# Altium footprint library RPSLib_Inductors.PcbLib: 19 footprints (part 1 of 2)
Each footprint in its own frame and in the unit in brackets; x right, y up, seen from the top. Pads: shape width x height; smd on the part's side, far side on the other; paste and mask are expansions set on the pad; w line width, h text height; cw(c..) or ccw(c..) is an arc to the next point about the centre after c.
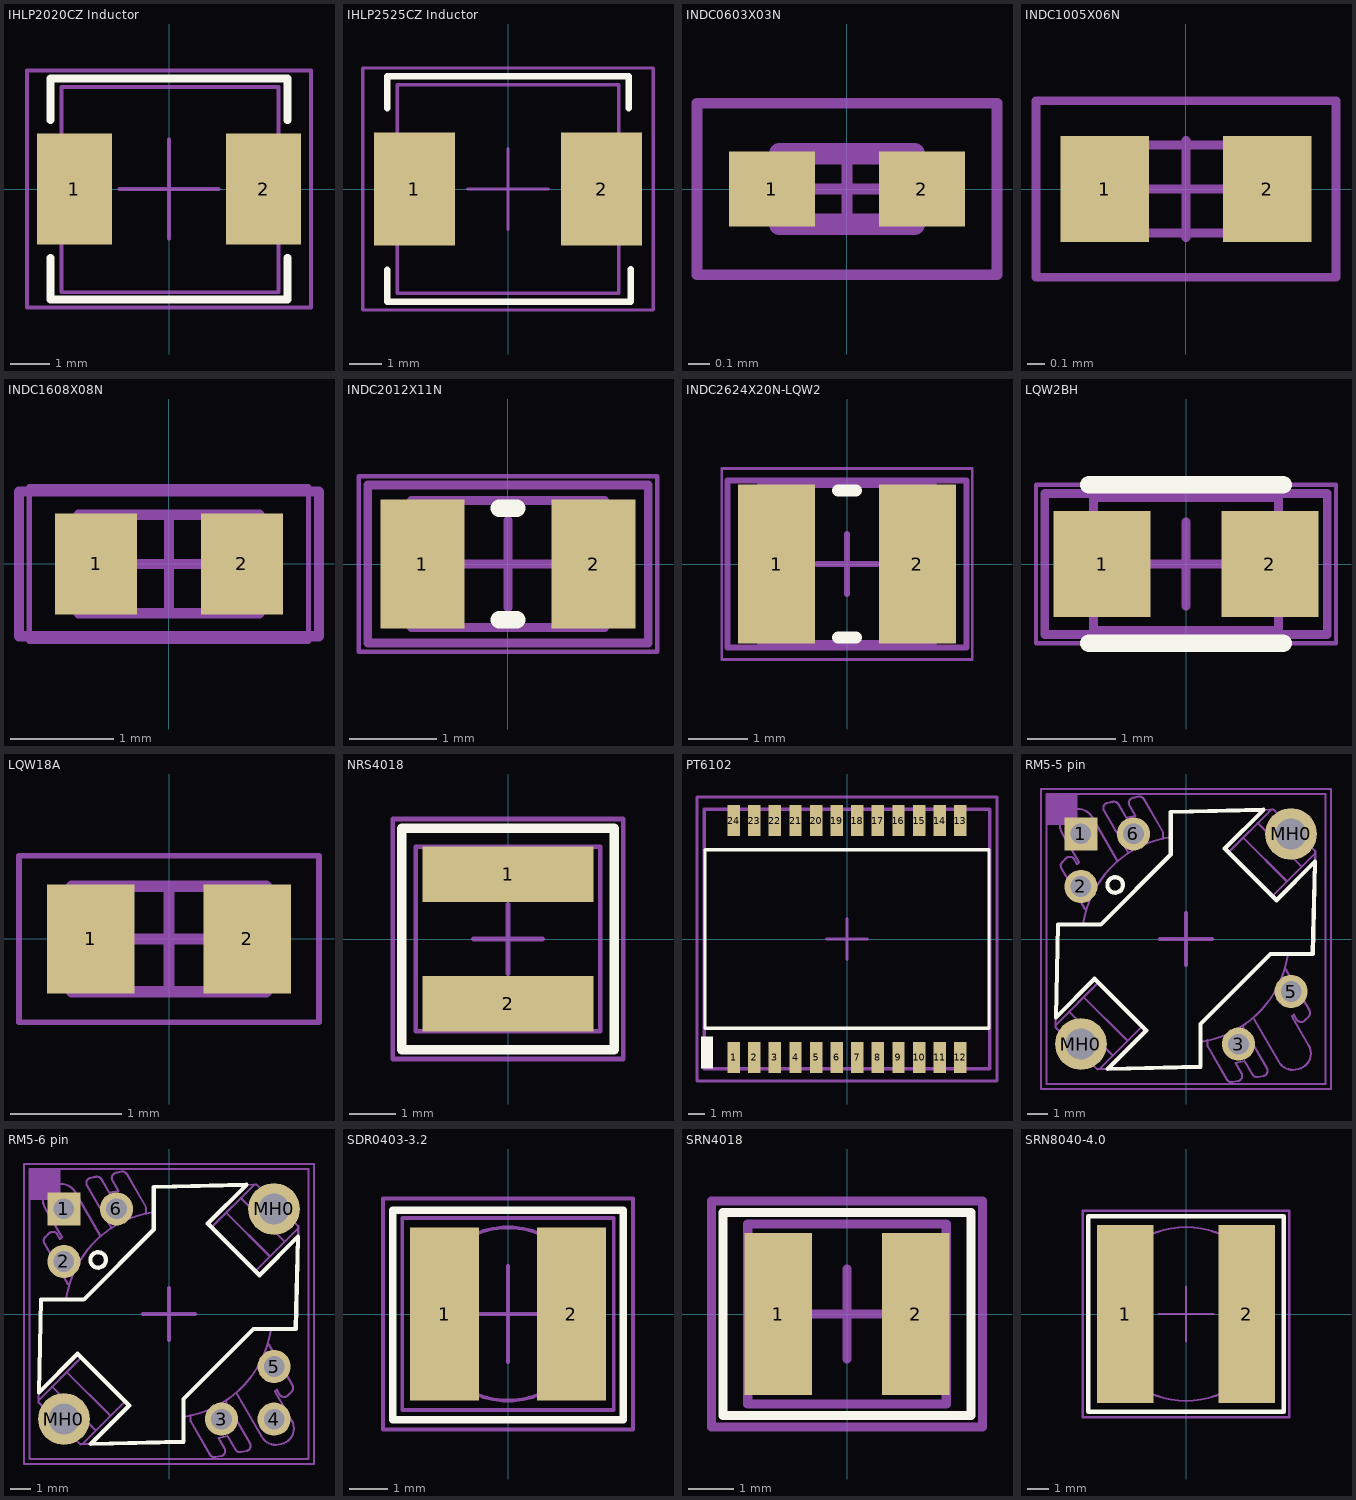
[diagram p0: the footprints below, top view; thin cyan lines are the x and y axes]

## IHLP2020CZ Inductor [mm]
height 3
pads (2):
  rect 1.9x2.8 smd mask+0.07: 1(-2.4,0) 2(2.4,0)
Top Overlay:
  lines w0.2: -3,-1.75 -3,-2.8 3,-2.8 3,-1.743 ; -3,1.75 -3,2.8 3,2.8 3,1.743
Mechanical 13:
  lines w0.1: -2.724,-2.615 -2.724,2.585 2.776,2.585 2.776,-2.615 -2.724,-2.615
Mechanical 15:
  lines w0.1: -1.25,0 1.25,0 ; 0,-1.25 0,1.25 ; -3.6,-3 3.6,-3 3.6,3 -3.6,3 -3.6,-3
3D body "User Library-IHLP2020CZ.step": height 3, standoff 0, extent -2.724,-2.615 2.776,2.585

## IHLP2525CZ Inductor [mm]
height 3
pads (2):
  rect 2.5x3.5 smd mask+0.07: 1(-2.9,0) 2(2.9,0)
Top Overlay:
  lines w0.2: -3.75,-2.5 -3.75,-3.5 3.801,-3.5 ; -3.75,2.5 -3.75,3.5 3.75,3.5 3.75,2.5 ; 3.801,-3.493 3.801,-2.493
Mechanical 13:
  lines w0.1: -3.43,-3.235 3.43,-3.235 3.43,3.235 -3.43,3.235 -3.43,-3.235
Mechanical 15:
  lines w0.1: -1.25,0 1.25,0 ; 0,-1.25 0,1.25 ; -4.5,-3.75 -4.5,3.75 4.5,3.75 4.5,-3.75 -4.5,-3.75
3D body "User Library-IHLP-2525CZ.step": height 3, standoff 0, extent -3.43,-3.235 3.43,3.235

## INDC0603X03N [mm] "Chip Inductor, 2-Leads, Body 0.60x0.30mm, IPC Medium Density"
height 0.3
pads (2):
  rect 0.4x0.35 smd paste-1: 1(-0.35,0) 2(0.35,0)
Top Paste:
  region: 0.45,0.15 0.46,0.15 0.478,0.142 0.492,0.128 0.5,0.11 0.5,0.1 0.5,-0.1 0.5,-0.11 0.492,-0.128 0.478,-0.142 0.46,-0.15 0.45,-0.15 0.225,-0.15 0.215,-0.15 0.197,-0.142 0.183,-0.128 0.175,-0.11 0.175,-0.1 0.175,0.1 0.175,0.11 0.183,0.128 0.197,0.142 0.215,0.15 0.225,0.15
  region: -0.45,-0.15 -0.46,-0.15 -0.478,-0.142 -0.492,-0.128 -0.5,-0.11 -0.5,-0.1 -0.5,0.1 -0.5,0.11 -0.492,0.128 -0.478,0.142 -0.46,0.15 -0.45,0.15 -0.225,0.15 -0.215,0.15 -0.197,0.142 -0.183,0.128 -0.175,0.11 -0.175,0.1 -0.175,-0.1 -0.175,-0.11 -0.183,-0.128 -0.197,-0.142 -0.215,-0.15 -0.225,-0.15
Mechanical 13:
  lines w0.1: -0.315,-0.165 -0.315,0.165 0.315,0.165 0.315,-0.165 -0.315,-0.165
Mechanical 15:
  lines w0.05: -0.165,0 0.165,0 ; 0,-0.165 0,0.165 ; -0.7,-0.4 -0.7,0.4 0.7,0.4 0.7,-0.4 -0.7,-0.4
3D body "INDC0603X03N.step": height 0.3, standoff 0, extent -0.315,-0.165 0.315,0.165

## INDC1005X06N [mm] "Chip Inductor, 2-Leads, Body 1.00x0.50mm, IPC Medium Density"
height 0.55
pads (2):
  rect 0.5x0.6 smd paste-0.05 mask+0.07: 1(-0.46,0) 2(0.46,0)
Mechanical 1:
  lines w0.05: -0.85,-0.5 0.85,-0.5 0.85,0.5 -0.85,0.5 -0.85,-0.5
  text ".Designator" at -1.126,-0.113 h0.5
Mechanical 13:
  lines w0.05: -0.5,-0.25 -0.5,0.25 0.5,0.25 0.5,-0.25 -0.5,-0.25
Mechanical 15:
  lines w0.05: -0.275,0 0.275,0 ; 0,-0.275 0,0.275 ; -0.85,-0.5 -0.85,0.5 0.85,0.5 0.85,-0.5 -0.85,-0.5
3D body "INDC1005X05L.step": height 0.5, standoff 0, extent -0.5,-0.25 0.5,0.25

## INDC1608X08N [mm] "Chip Inductor, 2-Leads, Body 1.60x0.80mm, IPC Medium Density"
height 0.8
pads (2):
  rect 0.79x0.98 smd paste-0.04 mask+0.07: 1(-0.705,0) 2(0.705,0)
Mechanical 1:
  lines w0.1: -1.45,-0.7 1.45,-0.7 1.45,0.7 -1.45,0.7 -1.45,-0.7
  text ".Designator" at -2.253,-0.226 h1
Mechanical 13:
  lines w0.1: -0.875,-0.475 -0.875,0.475 0.875,0.475 0.875,-0.475 -0.875,-0.475
Mechanical 15:
  lines w0.05: -1.35,-0.75 -1.35,0.75 1.35,0.75 1.35,-0.75 -1.35,-0.75
  lines w0.1: -0.475,0 0.475,0 ; 0,-0.475 0,0.475
3D body "INDC1608X08N.step": height 0.8, standoff 0, extent -0.875,-0.475 0.875,0.475

## INDC2012X11N [mm] "Chip Inductor, 2-Leads, Body 2,00x1,25mm, IPC Medium Density"
height 1.1
pads (2):
  rect 0.96x1.47 smd: 1(-0.975,0) 2(0.975,0)
Top Overlay:
  lines w0.2: -0.1,-0.635 0.1,-0.635 ; -0.1,0.635 0.1,0.635
Mechanical 1:
  lines w0.1: -1.6,-0.9 1.6,-0.9 1.6,0.9 -1.6,0.9 -1.6,-0.9
  text ".Designator" at -2.253,-0.226 h1
Mechanical 13:
  lines w0.1: -1.1,-0.725 -1.1,0.725 1.1,0.725 1.1,-0.725 -1.1,-0.725
Mechanical 15:
  lines w0.05: -1.7,-1 -1.7,1 1.7,1 1.7,-1 -1.7,-1
  lines w0.1: -0.5,0 0.5,0 ; 0,-0.5 0,0.5
3D body "INDC2012X11N.step": height 1.1, standoff 0, extent -1.1,-0.725 1.1,0.725

## INDC2624X20N-LQW2 [mm] "Chip Inductor, 2-Leads, Body 2,62x2,45mm, IPC Medium Density"
height 2.03
pads (2):
  rect 1.29x2.67 smd: 1(-1.18,0) 2(1.18,0)
Top Overlay:
  lines w0.2: -0.15,-1.235 0.15,-1.235 ; -0.15,1.235 0.15,1.235
Mechanical 1:
  lines w0.1: -2,-1.4 2,-1.4 2,1.4 -2,1.4 -2,-1.4
  text ".Designator" at -2.253,-0.226 h1
Mechanical 13:
  lines w0.1: -1.46,-1.325 1.46,-1.325 1.46,1.325 -1.46,1.325 -1.46,-1.325
Mechanical 15:
  lines w0.05: -2.1,-1.6 2.1,-1.6 2.1,1.6 -2.1,1.6 -2.1,-1.6
  lines w0.1: -0.5,0 0.5,0 ; 0,-0.5 0,0.5
3D body "INDC2624X20N-KLQW2.step": height 2.03, standoff 0, extent -1.46,-1.325 1.46,1.325

## LQW2BH [mm] "Chip Inductor, 2-Leads, Body 2.0x1.50mm, IPC Medium Density"
height 1.7
pads (2):
  rect 1.1x1.2 smd paste-0.04 mask+0.07: 1(-0.95,0) 2(0.95,0)
Top Overlay:
  lines w0.2: -1.1,-0.9 1.1,-0.9 ; -1.1,0.9 1.1,0.9
Mechanical 1:
  lines w0.1: -1.6,-0.8 1.6,-0.8 1.6,0.8 -1.6,0.8 -1.6,-0.8
  text ".Designator" at -2.253,-0.226 h1
Mechanical 13:
  lines w0.1: -1.05,-0.75 -1.05,0.75 1.05,0.75 1.05,-0.75 -1.05,-0.75
Mechanical 15:
  lines w0.05: -1.7,-0.9 -1.7,0.9 1.7,0.9 1.7,-0.9 -1.7,-0.9
  lines w0.1: -0.475,0 0.475,0 ; 0,-0.475 0,0.475
3D body "User Library-LQW2BHN.step": height 1.7, standoff 0, extent -1.05,-0.75 1.05,0.75

## LQW18A [mm] "Chip Inductor, 2-Leads, Body 1.60x0.80mm, IPC Medium Density"
height 0.8
pads (2):
  rect 0.79x0.98 smd paste-0.05 mask+0.07: 1(-0.705,0) 2(0.705,0)
Mechanical 13:
  lines w0.1: -0.875,-0.475 0.875,-0.475 0.875,0.475 -0.875,0.475 -0.875,-0.475
Mechanical 15:
  lines w0.05: -1.35,-0.75 1.35,-0.75 1.35,0.75 -1.35,0.75 -1.35,-0.75
  lines w0.1: -0.475,0 0.475,0 ; 0,-0.475 0,0.475
3D body "User Library-INDC1608X80-MURATA_LQW18A.step": height 0.81, standoff 0, extent -0.8,-0.45 0.8,0.45

## NRS4018 [mm] "Fixed inductor 4.0x4.0x1.8 mm"
height 1.8
pads (2):
  rect 3.7x1.2 smd mask+0.07: 1(0,1.4) 2(0,-1.4)
Top Overlay:
  lines w0.2: -2.3,-2.4 -2.3,2.4 2.3,2.4 2.3,-2.4 -2.3,-2.4
Mechanical 13:
  lines w0.1: -2,-2 2,-2 2,2 -2,2 -2,-2
Mechanical 15:
  lines w0.1: -0.75,0 0.75,0 ; 0,-0.75 0,0.75 ; -2.5,-2.6 2.5,-2.6 2.5,2.6 -2.5,2.6 -2.5,-2.6
3D body "NRS4018.stp": height 1.8, standoff 0, extent -2,-2 2,2

## PT6102 [mil] "LAN Transformer"
height 236.22
pads (24):
  rect 30x75 smd mask+2.76: 1(-275,-287.5) 2(-225,-287.5) 3(-175,-287.5) 4(-125,-287.5) 5(-75,-287.5) 6(-25,-287.5) 7(25,-287.5) 8(75,-287.5) 9(125,-287.5) 10(175,-287.5) 11(225,-287.5) 12(275,-287.5) 13(275,287.5) 14(225,287.5) 15(175,287.5) 16(125,287.5) 17(75,287.5) 18(25,287.5) 19(-25,287.5) 20(-75,287.5) 21(-125,287.5) 22(-175,287.5) 23(-225,287.5) 24(-275,287.5)
Top Overlay:
  rectangle: -354.33,-314.96 -324.8,-236.22
  lines w7.87: -344.49,-216.54 -344.49,216.54 344.49,216.54 344.49,-216.54 -344.49,-216.54
Mechanical 13:
  lines w7.87: -346.85,-314.95 -346.85,314.97 346.85,314.97 346.85,-314.95 -346.85,-314.95
Mechanical 15:
  lines w7.87: -49.21,0 49.21,0 ; 0,-49.21 0,49.21 ; -364.17,-344.49 -364.17,344.49 364.17,344.49 364.17,-344.49 -364.17,-344.49
3D body "pt61020l_dot.stp": height 236.22, standoff 0, extent -346.85,-314.95 346.85,314.97

## RM5-5 pin [mm]
pads (7):
  rect 1.6x1.6 hole 1 mask+0.07: 1(-5.08,5.08)
  round 1.6 hole 1 mask+0.07: 2(-5.08,2.54) 3(2.54,-5.08) 5(5.08,-2.54) 6(-2.54,5.08)
  round 2.5 hole 1.5 mask+0.07: MH0(-5.08,-5.08) MH0(5.08,5.08)
Top Overlay:
  circle w0.2: c-3.424,2.613 r0.375
  lines w0.2: 0.698,-4.972 0.698,-5.068 ; 4.927,-0.73 5.023,-0.73 ; 0.698,-6.175 0.698,-5.068 ; 0.698,-6.175 0.698,-4.11 4.078,-0.73 6.129,-0.73 ; 0.698,-6.175 -3.783,-6.283 -1.92,-4.42 -4.42,-1.92 -6.291,-3.791 -6.183,0.705 -4.118,0.705 -0.738,4.085 -0.738,6.136 3.744,6.244 1.873,4.373 4.373,1.873 6.236,3.736 6.129,-0.73 ; 0.698,-5.068 ccw(c-0.027,-0.02) 0.698,-5.068 ; 5.023,-0.73 ccw(c-0.027,-0.02) 5.023,-0.73 ; 5.023,-0.73 6.129,-0.73
Mechanical 1:
  rectangle: -6.75,5.5 -5.25,7
  lines w0.1: -6.75,-7 -6.75,7 6.75,7 6.75,-7 -6.75,-7
  text ".Designator" at -1.126,-0.113 h0.5
Mechanical 13:
  lines w0.1: -5.652,-3.516 -3.531,-5.638 ; -4.979,0.705 cw(c-0.027,-0.02) -0.738,4.934 ; -4.945,-2.809 -2.824,-4.93 ; -4.813,1.443 -4.888,1.443 -6.023,3.409 cw(c-5.804,3.535) -5.982,3.714 -5.797,3.899 cw(c-5.619,3.72) -5.4,3.846 -5.266,3.615 -5.174,3.708 -5.99,5.121 cw(c-5.333,5.5) -5.482,6.244 -5.351,6.27 cw(c-5.203,5.526) -4.546,5.905 -3.307,3.76 ; -2.78,4.16 -3.961,6.207 cw(c-3.743,6.333) -3.792,6.581 -3.531,6.634 cw(c-3.481,6.386) -3.262,6.512 -2.886,5.86 -2.441,5.949 -2.732,6.453 cw(c-2.513,6.579) -2.563,6.827 -2.301,6.879 cw(c-2.251,6.631) -2.033,6.758 -1.102,5.146 -1.102,4.868 ; -1.102,4.846 -1.102,4.849 ; 1.048,-4.908 1.048,-5.186 1.979,-6.797 ccw(c2.197,-6.671) 2.247,-6.919 2.509,-6.867 ccw(c2.459,-6.619) 2.678,-6.492 2.387,-5.989 2.832,-5.9 3.208,-6.552 ccw(c3.427,-6.425) 3.477,-6.673 3.738,-6.621 ccw(c3.689,-6.373) 3.908,-6.247 2.726,-4.2 ; 1.048,-4.888 1.048,-4.886 ; 2.762,4.898 4.884,2.777 ; 3.254,-3.8 4.492,-5.945 ccw(c5.149,-5.566) 5.297,-6.309 5.428,-6.283 ccw(c5.279,-5.54) 5.936,-5.161 5.12,-3.748 5.213,-3.655 5.346,-3.886 ccw(c5.565,-3.76) 5.744,-3.938 5.929,-3.753 ccw(c5.75,-3.575) 5.969,-3.448 4.834,-1.483 4.759,-1.483 ; 3.469,5.605 5.591,3.484 ; -6.3,-4.164 -4.238,-2.102 -2.117,-4.223 -4.186,-6.293 ; -6.3,-4.164 -6.183,0.705 -4.118,0.705 -0.738,4.085 -0.738,6.136 4.117,6.253 ; -6.3,-4.164 -6.303,-4.28 -4.287,-6.295 ; -4.287,-6.295 0.698,-6.175 ; -4.287,-6.295 -4.186,-6.293 ; -4.287,-6.295 -4.287,-6.295 ; -4.186,-6.293 0.698,-6.175 ; 0.698,-6.175 0.698,-5.068 ; 0.698,-6.175 0.698,-4.11 4.078,-0.73 6.129,-0.73 ; 0.698,-5.068 ccw(c-0.027,-0.02) 0.698,-5.068 ; 0.698,-5.068 0.698,-4.972 ccw(c-0.027,-0.02) 4.927,-0.73 5.023,-0.73 ; 4.117,6.253 4.233,6.256 6.248,4.241 ; 4.117,6.253 2.055,4.191 4.177,2.07 6.246,4.139 6.248,4.241 ; 5.023,-0.73 ccw(c-0.027,-0.02) 5.023,-0.73 ; 5.023,-0.73 6.129,-0.73 ; 6.129,-0.73 6.249,4.24 ; 6.248,4.241 6.249,4.24
Mechanical 15:
  lines w0.1: -7,-7.25 -7,7.25 7,7.25 7,-7.25 -7,-7.25
  lines w0.2: -1.25,0.007 1.25,0.007 ; 0,-1.25 0,1.25
3D body "RM5 Norm.stp": height 11.05, standoff -2.85, extent -6.613,-6.895 6.619,6.909

## RM5-6 pin [mm]
pads (8):
  rect 1.6x1.6 hole 1 mask+0.07: 1(-5.08,5.08)
  round 1.6 hole 1 mask+0.07: 2(-5.08,2.54) 3(2.54,-5.08) 4(5.08,-5.08) 5(5.08,-2.54) 6(-2.54,5.08)
  round 2.5 hole 1.5 mask+0.07: MH0(-5.08,-5.08) MH0(5.08,5.08)
Top Overlay:
  circle w0.2: c-3.424,2.613 r0.375
  lines w0.2: 0.698,-4.972 0.698,-5.068 ; 4.927,-0.73 5.023,-0.73 ; 0.698,-6.175 0.698,-5.068 ; 0.698,-6.175 0.698,-4.11 4.078,-0.73 6.129,-0.73 ; 0.698,-6.175 -3.783,-6.283 -1.92,-4.42 -4.42,-1.92 -6.291,-3.791 -6.183,0.705 -4.118,0.705 -0.738,4.085 -0.738,6.136 3.744,6.244 1.873,4.373 4.373,1.873 6.236,3.736 6.129,-0.73 ; 0.698,-5.068 ccw(c-0.027,-0.02) 0.698,-5.068 ; 5.023,-0.73 ccw(c-0.027,-0.02) 5.023,-0.73 ; 5.023,-0.73 6.129,-0.73
Mechanical 1:
  rectangle: -6.75,5.5 -5.25,7
  lines w0.1: -6.75,-7 -6.75,7 6.75,7 6.75,-7 -6.75,-7
  text ".Designator" at -1.126,-0.113 h0.5
Mechanical 13:
  lines w0.1: -5.652,-3.516 -3.531,-5.638 ; -4.979,0.705 cw(c-0.027,-0.02) -0.738,4.934 ; -4.945,-2.809 -2.824,-4.93 ; -4.813,1.443 -4.888,1.443 -6.023,3.409 cw(c-5.804,3.535) -5.982,3.714 -5.797,3.899 cw(c-5.619,3.72) -5.4,3.846 -5.266,3.615 -5.174,3.708 -5.99,5.121 cw(c-5.333,5.5) -5.482,6.244 -5.351,6.27 cw(c-5.203,5.526) -4.546,5.905 -3.307,3.76 ; -2.78,4.16 -3.961,6.207 cw(c-3.743,6.333) -3.792,6.581 -3.531,6.634 cw(c-3.481,6.386) -3.262,6.512 -2.886,5.86 -2.441,5.949 -2.732,6.453 cw(c-2.513,6.579) -2.563,6.827 -2.301,6.879 cw(c-2.251,6.631) -2.033,6.758 -1.102,5.146 -1.102,4.868 ; -1.102,4.846 -1.102,4.849 ; 1.048,-4.908 1.048,-5.186 1.979,-6.797 ccw(c2.197,-6.671) 2.247,-6.919 2.509,-6.867 ccw(c2.459,-6.619) 2.678,-6.492 2.387,-5.989 2.832,-5.9 3.208,-6.552 ccw(c3.427,-6.425) 3.477,-6.673 3.738,-6.621 ccw(c3.689,-6.373) 3.908,-6.247 2.726,-4.2 ; 1.048,-4.888 1.048,-4.886 ; 2.762,4.898 4.884,2.777 ; 3.254,-3.8 4.492,-5.945 ccw(c5.149,-5.566) 5.297,-6.309 5.428,-6.283 ccw(c5.279,-5.54) 5.936,-5.161 5.12,-3.748 5.213,-3.655 5.346,-3.886 ccw(c5.565,-3.76) 5.744,-3.938 5.929,-3.753 ccw(c5.75,-3.575) 5.969,-3.448 4.834,-1.483 4.759,-1.483 ; 3.469,5.605 5.591,3.484 ; -6.3,-4.164 -4.238,-2.102 -2.117,-4.223 -4.186,-6.293 ; -6.3,-4.164 -6.183,0.705 -4.118,0.705 -0.738,4.085 -0.738,6.136 4.117,6.253 ; -6.3,-4.164 -6.303,-4.28 -4.287,-6.295 ; -4.287,-6.295 0.698,-6.175 ; -4.287,-6.295 -4.186,-6.293 ; -4.287,-6.295 -4.287,-6.295 ; -4.186,-6.293 0.698,-6.175 ; 0.698,-6.175 0.698,-5.068 ; 0.698,-6.175 0.698,-4.11 4.078,-0.73 6.129,-0.73 ; 0.698,-5.068 ccw(c-0.027,-0.02) 0.698,-5.068 ; 0.698,-5.068 0.698,-4.972 ccw(c-0.027,-0.02) 4.927,-0.73 5.023,-0.73 ; 4.117,6.253 4.233,6.256 6.248,4.241 ; 4.117,6.253 2.055,4.191 4.177,2.07 6.246,4.139 6.248,4.241 ; 5.023,-0.73 ccw(c-0.027,-0.02) 5.023,-0.73 ; 5.023,-0.73 6.129,-0.73 ; 6.129,-0.73 6.249,4.24 ; 6.248,4.241 6.249,4.24
Mechanical 15:
  lines w0.1: -7,-7.25 -7,7.25 7,7.25 7,-7.25 -7,-7.25
  lines w0.2: -1.25,0.007 1.25,0.007 ; 0,-1.25 0,1.25
3D body "RM5 Norm.stp": height 11.05, standoff -2.85, extent -6.613,-6.895 6.619,6.909

## SDR0403-3.2 [mm] "Bourns SDR0403 Inductor"
height 3.5
pads (2):
  rect 1.8x4.5 smd mask+0.07: 1(-1.65,0) 2(1.65,0)
Top Overlay:
  lines w0.2: -3,-2.75 -3,2.7 3,2.7 3,-2.75 -3,-2.75
Mechanical 1:
  lines w0.1: -2.75,-2.5 -2.75,2.5 2.75,2.5 2.75,-2.5 -2.75,-2.5
  text ".Designator" at -1.126,-0.113 h0.5
Mechanical 13:
  circle w0.1: c0,0 r2.25
Mechanical 15:
  lines w0.1: -1.25,0 1.25,0 ; 0,-1.25 0,1.25 ; -3.25,-3 3.25,-3 3.25,3 -3.25,3 -3.25,-3
3D body "sdr0403.stp": height 3.2, standoff 0, extent -2.25,-2.25 2.25,2.25

## SRN4018 [mm]
pads (2):
  rect 1.5x3.6 smd mask+0.07: 1(-1.525,0) 2(1.525,0)
Top Overlay:
  lines w0.2: -2.75,-2.25 -2.75,2.25 2.75,2.25 2.75,-2.25 -2.75,-2.25
Mechanical 13:
  lines w0.2: -2.2,-2 2.2,-2 2.2,2 -2.2,2 -2.2,-2
Mechanical 15:
  lines w0.2: -1,0 1,0 ; 0,-1 0,1 ; -3,-2.5 3,-2.5 3,2.5 -3,2.5 -3,-2.5
3D body "srn4018.stp": height 1.8, standoff 0, extent -2.2,-2 2.2,2

## SRN8040-4.0 [mm] "Bourns SRN8040 Inductor"
height 4
pads (2):
  rect 2.6x8.2 smd mask+0.07: 1(-2.8,0) 2(2.8,0)
Top Overlay:
  lines w0.2: -4.5,-4.5 -4.5,4.5 4.5,4.5 4.5,-4.5 -4.5,-4.5
Mechanical 13:
  circle w0.1: c0,0 r4
Mechanical 15:
  lines w0.1: -1.25,0 1.25,0 ; 0,-1.25 0,1.25 ; -4.75,-4.75 4.75,-4.75 4.75,4.75 -4.75,4.75 -4.75,-4.75
3D body "srn8040_.stp": height 3.95, standoff 0, extent -4.075,-3.95 4.075,3.95